# Altium schematic symbol library 0430450427.Schlib: 1 symbol
Pins are listed as number, name and electrical type; pins without a type are passive.

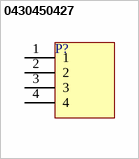
[diagram p0: symbol 0430450427]

## 0430450427
designator P?
Micro-Fit 3.0, 4 Pin Vertical Header
pins: 1, 2, 3, 4